# Altium footprint library DFN2626-10.PcbLib: 1 footprints
Each footprint in its own frame and in the unit in brackets; x right, y up, seen from the top. Pads: shape width x height; smd on the part's side, far side on the other; paste and mask are expansions set on the pad; w line width, h text height; cw(c..) or ccw(c..) is an arc to the next point about the centre after c.
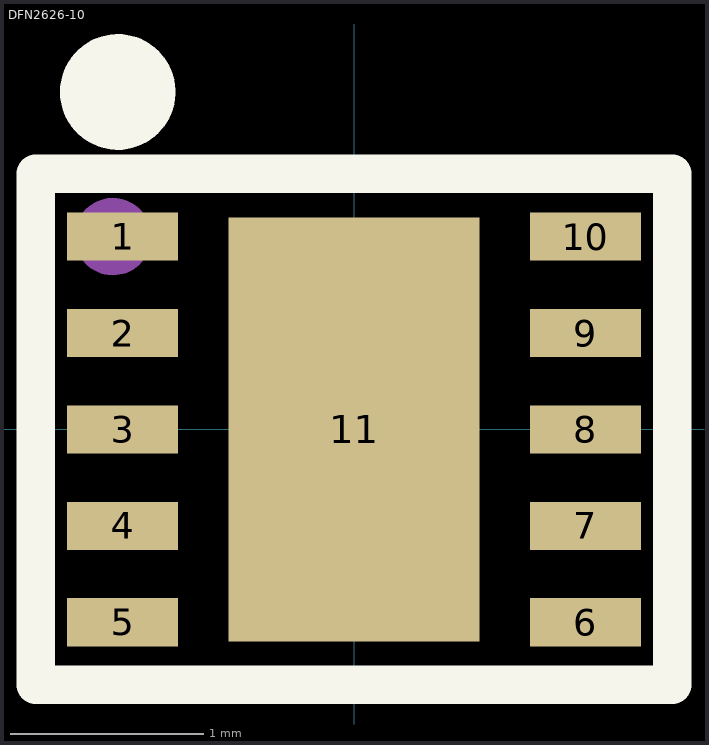
[diagram p0: the footprint, top view; thin cyan lines are the x and y axes]

## DFN2626-10 [mm]
pads (11):
  rect 0.575x0.25 smd paste+0 mask+0.05: 1(-1.2,1) 2(-1.2,0.5) 3(-1.2,0) 4(-1.2,-0.5) 5(-1.2,-1) 6(1.2,-1) 7(1.2,-0.5) 8(1.2,0) 9(1.2,0.5) 10(1.2,1)
  rect 1.3x2.2 smd paste+0 mask+0.05: 11(0,0)
Top Overlay:
  circle w0.3: c-1.225,1.75 r0.15
  lines w0.2: -1.65,-1.325 1.65,-1.325 1.65,1.325 -1.65,1.325 -1.65,-1.325
Top Assembly:
  circle w0.2: c-1.25,1 r0.1
  lines w0.1: -1.65,-1.325 1.65,-1.325 1.65,1.325 -1.65,1.325 -1.65,-1.325
  text "'.Designator'" at -0.9,-0.325 h0.7
3D body "DFN2626-10.stp": height 0.5, standoff 0, extent -1.3,-1.3 1.3,1.3